# Altium integrated library CherryMXLED_Footprints.IntLib: 2 symbols
Pins are listed as number, name and electrical type; pins without a type are passive.

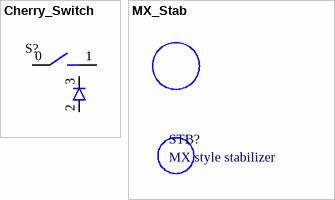
[diagram p0: symbols Cherry_Switch to MX_Stab]

## Cherry_Switch
designator S?, comment Cherry  (value not drawn)
Cherry SPST Keyswitch
footprint CHERRY-MX-LED-1U
footprint CHERRY-MX-LED-1.25U
footprint CHERRY-MX-LED-1.5U
footprint CHERRY-MX-LED-1.75U
footprint CHERRY-MX-LED-2U
footprint CHERRY-MX-LED-2.25U
footprint CHERRY-MX-LED-2.75U
footprint CHERRY-MX-LED-6.25U
pins: 0, 1, 2, 3

## MX_Stab
designator STB?, comment MX style stabilizer
footprint MX_Stab (MX style stabilizer)